# Altium integrated library Leon.IntLib: 9 symbols
Pins are listed as number, name and electrical type; pins without a type are passive.

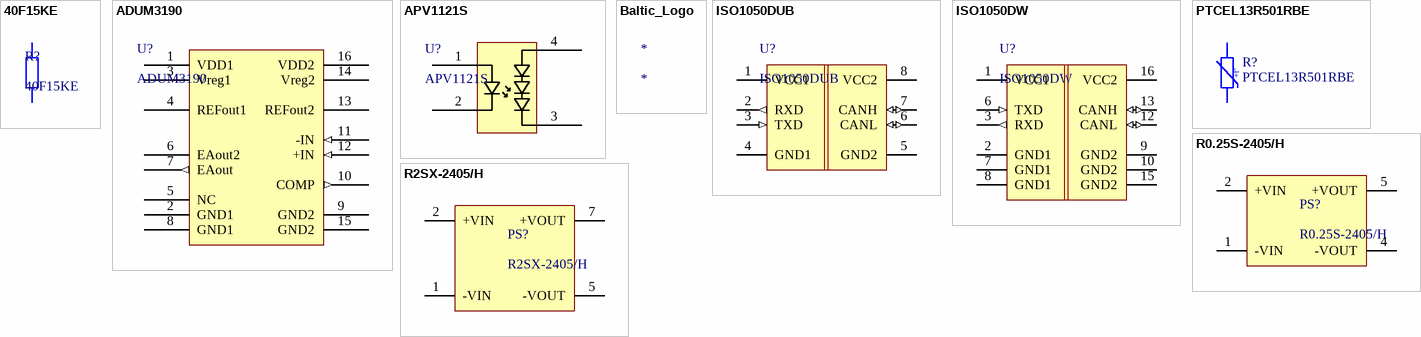
[diagram p0: symbols 40F15KE to R2SX-2405/H]

## 40F15KE
designator R?
Wirewound Resistors 10watt 15K 1% Axial; Manufacturer: Ohmite; Power Rating: 10W; Temperature Coefficient: 20ppm/°C; Supplier 1: Mouser; Manufacturer Part Number: 40F15KE; RoHS: Yes; Category: Through-Hole Resistors; Stock 1: 619; Pricing 1: 1=2,89000, 10=2,61000, 50=2,14000, 100=2,06000, 1000=1,35000, 10000=1,32000 (USD); Mount: Through Hole; Case/Package: Axial; Tolerance: 1%; Resistance: 15k; Packaging: Bulk; Package Quantity: 25; Resistor Type: Wirewound; Number of Terminations: 2; Termination: Axial; Max Power Dissipation: 10W; Series: Ohmicone® 40; Length: 1.902inch; RoHS Compliant: Yes; Supplier Part Number 1: 588-40F15KE; ComponentLink4Description: Datasheet; ComponentLink4URL: https://www.ohmite.com/assets/docs/res_40.pdf; ComponentLink5Description: Product Page; ComponentLink5URL: https://www.ohmite.com/40-series
footprint OHMITE_40_SERIES (Ohmicone ® Silicone-Ceramic Conformal  Axial Terminal Wirewound  1% and 5% Tolerance Standard)
pins: 1, 2

## ADUM3190
designator U?
ANALOG DEVICES - ADUM3190ARQZ - Isolation Amplifier, High Stability Error, 2 Amplifier, 2.5 kV, 3V to 20V, QSOP, 16 Pins; Bandwidth: 10MHz; Max Input Voltage: 1.5V; Common Mode Rejection Ratio: 72dB; -3db Bandwidth: 400kHz; Input Offset Voltage (Vos): 2.5V; Number of Channels: 1; Isolation Voltage: 2.5kV; Input Bias Current: 10nA; Output Current per Channel: 2mA; Max Power Dissipation: 1.64W; Accuracy: 1%; Min Input Voltage: 400mV; Max Output Voltage: 5V; Nominal Supply Current: 2.9mA; Number of Amplifiers: 2; Supplier 1: Digi-Key; Manufacturer: Analog Devices; Manufacturer Part Number: ADUM3190ARQZ; RoHS: Yes; Category: Integrated Circuits (ICs); Stock 1: 9197; Pricing 1: 1=2,92000, 10=2,62400, 25=2,48040, 100=2,14970, 250=2,03944, 500=1,82998, 1000=1,71600 (USD); Mount: Surface Mount; Case/Package: QSOP; Number of Pins: 16; Contact Plating: Tin,Matte; Min Operating Temperature: -40°C; Max Operating Temperature: 85°C; Package Quantity: 98; Packaging: Rail/Tube; Max Supply Voltage: 20V; Min Supply Voltage: 3V; Gain Bandwidth Product: 10MHz; Min Output Voltage: 400mV; Series: iCoupler®; Supply Current: 2.9mA; Amplifier Type: ISOLATION; Power Dissipation: 1.64W; Length: 5mm; Width: 4.01mm; Height: 1.65mm; Radiation Hardening: No; Lead Free: Contains Lead; RoHS Compliant: Yes; REACH SVHC: No SVHC; ComponentLink1URL: https://datasheet.ciiva.com/15065/adum3190-preliminary-01-22-2013-15065104.pdf?src-supplier=Digi-Key; ComponentLink1Description: https://datasheet.ciiva.com/15065/adum3190-preliminary-01-22-2013-15065104.pdf?src-supplier=Digi-Key; ComponentLink2URL: https://datasheet.ciiva.com/22616/1692610-22616320.pdf?src-supplier=Element14; ComponentLink2Description: https://datasheet.ciiva.com/22616/1692610-22616320.pdf?src-supplier=Element14; ComponentLink3URL: https://datasheet.ciiva.com/29892/adum3190-29892631.pdf?src-supplier=Avnet; ComponentLink3Description: https://datasheet.ciiva.com/29892/adum3190-29892631.pdf?src-supplier=Avnet; Supplier Part Number 1: ADUM3190ARQZ-ND
footprint AD_RQ_16
pins: 1 VDD1 (power) "Supply Voltage for Side1 (3.0V to 20V)", 2 GND1 (power) "Ground Reference for Side1", 3 Vreg1 (power) "Internal Supply Voltage for Side 1.", 4 REFout1 (power) "Reference Output voltage for Side1.", 5 NC (power), 6 EAout2 (oc) "Isolated Output Voltage", 7 EAout (out) "Isolated Output Voltage", 8 GND1 (power), 9 GND2 (power), 10 COMP (out), 11 -IN (in), 12 +IN (in), 13 REFout2 (power), 14 Vreg2 (power), 15 GND2 (power), 16 VDD2 (power)

## APV1121S
designator U?
Optocoupler DC-IN 1-CH Linear Photovoltaic DC-OUT 4-Pin SOP T/R; Manufacturer: Panasonic Aromat NAiS; Max Power Dissipation: 75mW; Max Input Current: 50mA; Reverse Breakdown Voltage: 5V; Forward Voltage: 1.5V; Isolation Voltage: 2.5kV; Number of Elements: 1; Max Output Voltage: 8.7V; Output Current per Channel: 14uA; Rise Time: 0.4ms; Fall Time: 0.1ms; RMS Current (Irms): 14mA; Supplier 1: Digi-Key; Manufacturer Part Number: APV1121S; RoHS: Yes; Category: Optocouplers; Stock 1: 1190; Pricing 1: 1=3,15000, 10=2,22600, 100=1,82320, 500=1,53700, 1000=1,50000 (USD); Mount: Surface Mount; Case/Package: SOP; Number of Pins: 4; Min Operating Temperature: -40°C; Max Operating Temperature: 85°C; Packaging: Rail/Tube; Power Dissipation: 75mW; Forward Current: 50mA; Package Quantity: 100; Number of Channels: 1; Load Current: 14uA; Output Voltage: 8.7V; Reverse Voltage (DC): 5V; Output Current: 14uA; Voltage Rating (DC): 2.5kV; Radiation Hardening: No; REACH SVHC: No SVHC; Lead Free: Lead Free; RoHS Compliant: Yes; ComponentLink1URL: https://datasheet.ciiva.com/26327/504875-da-01-en-photov-mosfet-tr-8-7v-14ua-apv1121s-26327388.pdf?src-supplier=Conrad; ComponentLink1Description: https://datasheet.ciiva.com/26327/504875-da-01-en-photov-mosfet-tr-8-7v-14ua-apv1121s-26327388.pdf?src-supplier=Conrad; ComponentLink2URL: https://datasheet.ciiva.com/26363/getdatasheetpartid-187679-26363899.pdf?src-supplier=Verical; ComponentLink2Description: https://datasheet.ciiva.com/26363/getdatasheetpartid-187679-26363899.pdf?src-supplier=Verical; ComponentLink3URL: https://datasheet.ciiva.com/24417/semi-eng-apv-24417419.pdf?src-supplier=Onlinecomponents.com; ComponentLink3Description: https://datasheet.ciiva.com/24417/semi-eng-apv-24417419.pdf?src-supplier=Onlinecomponents.com; Supplier Part Number 1: 255-2656-ND
footprint PANASONIC_SOP4 (Footprint not found)
pins: 1 IN+, 2 IN-, 3 OUT-, 4 OUT+

## Baltic_Logo
designator *  (graphical)
footprint LOGO_BALTIC_5mm
footprint LOGO_BALTIC_10mm
footprint LOGO_BALTIC_20mm

## ISO1050DUB
designator U?
Isolated CAN Transceiver, -55 to 105 degC, 8-pin SOP (DUB), Green (RoHS & no Sb/Br); Manufacturer: Texas Instruments; Rating: Catalog; Drivers Per Package: 1; Isolated: Yes; ComponentLink2URL: http://www.ti.com/litv/pdf/mpds247b; Eco-Plan: Green (RoHS & no Sb/Br); PackageReference: DUB0008A; PackageVersion: revC, May-2006; ComponentLink1Description: Datasheet; PartNumber: ISO1050DUB; SubFamily: CAN; DatasheetVersion: SLLS983E; PackageDescription: 8-Pin Small Outline Package 2.54 mm Pitch; ComponentLink2Description: Package Specification; ComponentLink1URL: http://www.ti.com/general/docs/lit/getliterature.tsp?genericPartNumber=ISO1050&fileType=pdf; Mounting Technology: Surface Mount
footprint TI_DUB0008A (SOP, 8-Leads, Body 6.7x9.6mm, Pitch 2.54mm, IPC Low Density)
pins: 1 VCC1 (power), 2 RXD (out), 3 TXD (in), 4 GND1 (power), 5 GND2 (power), 6 CANL (io), 7 CANH (io), 8 VCC2 (power)

## ISO1050DW
designator U?
Isolated CAN Transceiver, -55 to 105 degC, 16-pin SOIC (DW), Green (RoHS & no Sb/Br); Manufacturer: Texas Instruments; Drivers Per Package: 1; Rating: Catalog; Isolated: Yes; DatasheetVersion: SLLS983E; PackageDescription: 16-Pin Small Outline Integrated Circuit, 10.3 x 7.5 mm, Pitch 1.27 mm Pitch; Mounting Technology: Surface Mount; Eco-Plan: Green (RoHS & no Sb/Br); ComponentLink1URL: http://www.ti.com/general/docs/lit/getliterature.tsp?genericPartNumber=ISO1050&fileType=pdf; ComponentLink2URL: http://www.ti.com/litv/pdf/msoi003g; PartNumber: ISO1050DW; SubFamily: CAN; ComponentLink2Description: Package Specification; ComponentLink1Description: Datasheet; Code_JEDEC: MS-013-AA; PackageReference: DW00016B; PackageVersion: revG, Jan-2011
footprint TI_DW0016B (SOIC, 16-Leads, Body 10.5x7.6mm, Pitch 1.27mm, IPC Low Density)
pins: 1 VCC1 (power), 2 GND1 (power), 3 RXD (out), 6 TXD (in), 7 GND1 (power), 8 GND1 (power), 9 GND2 (power), 10 GND2 (power), 12 CANL (io), 13 CANH (io), 15 GND2 (power), 16 VCC2 (power)

## PTCEL13R501RBE
designator R?
PTC Thermistors, Inrush Current Limiter and Energy Load-Dump / 500Ohm, 150J; Manufacturer: Vishay; Supplier 1: Digi-Key; Manufacturer Part Number: PTCEL13R501RBE; RoHS: No; Stock 1: 1570; Pricing 1: 1=3,50000, 5=3,24600, 10=2,69700, 25=2,24760, 50=1,99800, 100=1,89810, 500=1,59840, 1000=1,49850, 5000=1,39860 (USD); Packaging: Bulk; ComponentLink1URL: http://www.vishay.com/docs/29165/ptcel.pdf?src-supplier=Digi-Key; ComponentLink1Description: http://www.vishay.com/docs/29165/ptcel.pdf?src-supplier=Digi-Key; Supplier Part Number 1: BC3320-ND
footprint PTCEL13_H (Footprint not found)
pins: 1, 2
text: +t°

## R0.25S-2405/H
designator PS?
CONV DC/DC 0.25W 24V IN 5V OUT, 3kV isolation; Manufacturer: Recom; Min Input Voltage: 21.6V; Number of Outputs: 1; Efficiency: 70%; Max Input Voltage: 26.4V; Max Output Current: 50mA; Max Power Dissipation: 250mW; Package: None; Price: None; Value: *; MP: R0.25S-2405/H; Availability: Unavailable; Supplier 1: Mouser; Manufacturer Part Number: R0.25S-2405/H; RoHS: Yes; Category: Voltage Regulators - Switching; Stock 1: 28; Pricing 1: 1=11,53000, 10=11,44000, 50=10,91000, 100=10,91000, 1000=9,50000, 10000=9,50000 (USD); Mount: Surface Mount; Case/Package: SMD/SMT; Weight: 1g; Min Operating Temperature: -40°C; Max Operating Temperature: 100°C; Packaging: Rail/Tube; Isolation Voltage: 3kV; Voltage - Output 1: 5V; Max Output Voltage: 5V; Output Power: 250mW; Package Quantity: 40; Features: SCP; Series: ECONOLINE R0.25S; Nominal Input Voltage: 24V; Current - Output 1: 50mA; Length: 12.75mm; Width: 10.7mm; Height: 7mm; RoHS Compliant: Yes; Lead Free: Lead Free; ComponentLink1URL: https://datasheet.ciiva.com/2176/r0-25s-d-2176433.pdf?src-supplier=Digi-Key; ComponentLink1Description: https://datasheet.ciiva.com/2176/r0-25s-d-2176433.pdf?src-supplier=Digi-Key; Supplier Part Number 1: 919-R0.25S-2405/H
footprint RECOM_R0.25S-2405/H (Footprint not found)
pins: 1 -VIN (power), 2 +VIN (power), 4 -VOUT (power), 5 +VOUT (power)

## R2SX-2405/H
designator PS?
2 Watt SMD Single Output, 3kV isolation; Manufacturer: Recom; Manufacturer Part Number: R2SX-2405/H-TRAY; Supplier 1: Digi-Key; RoHS: No; Stock 1: 29; Pricing 1: 1=7,11000, 5=7,01000, 10=6,90800, 25=6,70480, 50=6,50160, 100=6,29840, 250=6,09524, 440=5,68891 (USD); Supplier Part Number 1: 945-3423-ND
footprint RECOM_R2SX-2405-Tray
pins: 1 -VIN (power), 2 +VIN (power), 5 -VOUT (power), 7 +VOUT (power)